# Altium footprint library 1008 Inductor.PcbLib: 1 footprints
Each footprint in its own frame and in the unit in brackets; x right, y up, seen from the top. Pads: shape width x height; smd on the part's side, far side on the other; paste and mask are expansions set on the pad; w line width, h text height; cw(c..) or ccw(c..) is an arc to the next point about the centre after c.
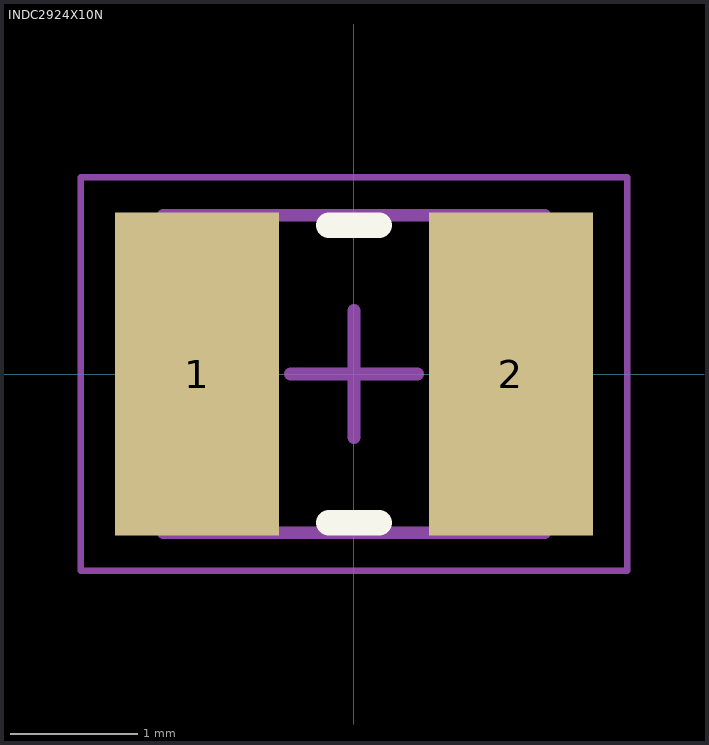
[diagram p0: the footprint, top view; thin cyan lines are the x and y axes]

## INDC2924X10N [mm] "Chip Inductor, 2-Leads, Body 2.90x2.40mm, IPC Medium Density"
height 1
pads (2):
  rect 1.29x2.54 smd: 1(-1.235,0) 2(1.235,0)
Top Overlay:
  lines w0.2: -0.2,-1.17 0.2,-1.17 ; -0.2,1.17 0.2,1.17
Mechanical 13:
  lines w0.1: -1.5,-1.25 -1.5,1.25 1.5,1.25 1.5,-1.25 -1.5,-1.25
Mechanical 15:
  lines w0.05: -2.15,-1.55 -2.15,1.55 2.15,1.55 2.15,-1.55 -2.15,-1.55
  lines w0.1: -0.5,0 0.5,0 ; 0,-0.5 0,0.5
3D body: height 1, standoff 0, extent -0.8,-1.25 0.8,1.25
3D body: height 1, standoff 0, extent -1.5,-1.25 -0.8,1.25
3D body: height 1, standoff 0, extent 0.8,-1.25 1.5,1.25